# Altium footprint library SG__PCB_LGA.PcbLib: 21 footprints (part 1 of 2)
Each footprint in its own frame and in the unit in brackets; x right, y up, seen from the top. Pads: shape width x height; smd on the part's side, far side on the other; paste and mask are expansions set on the pad; w line width, h text height; cw(c..) or ccw(c..) is an arc to the next point about the centre after c.
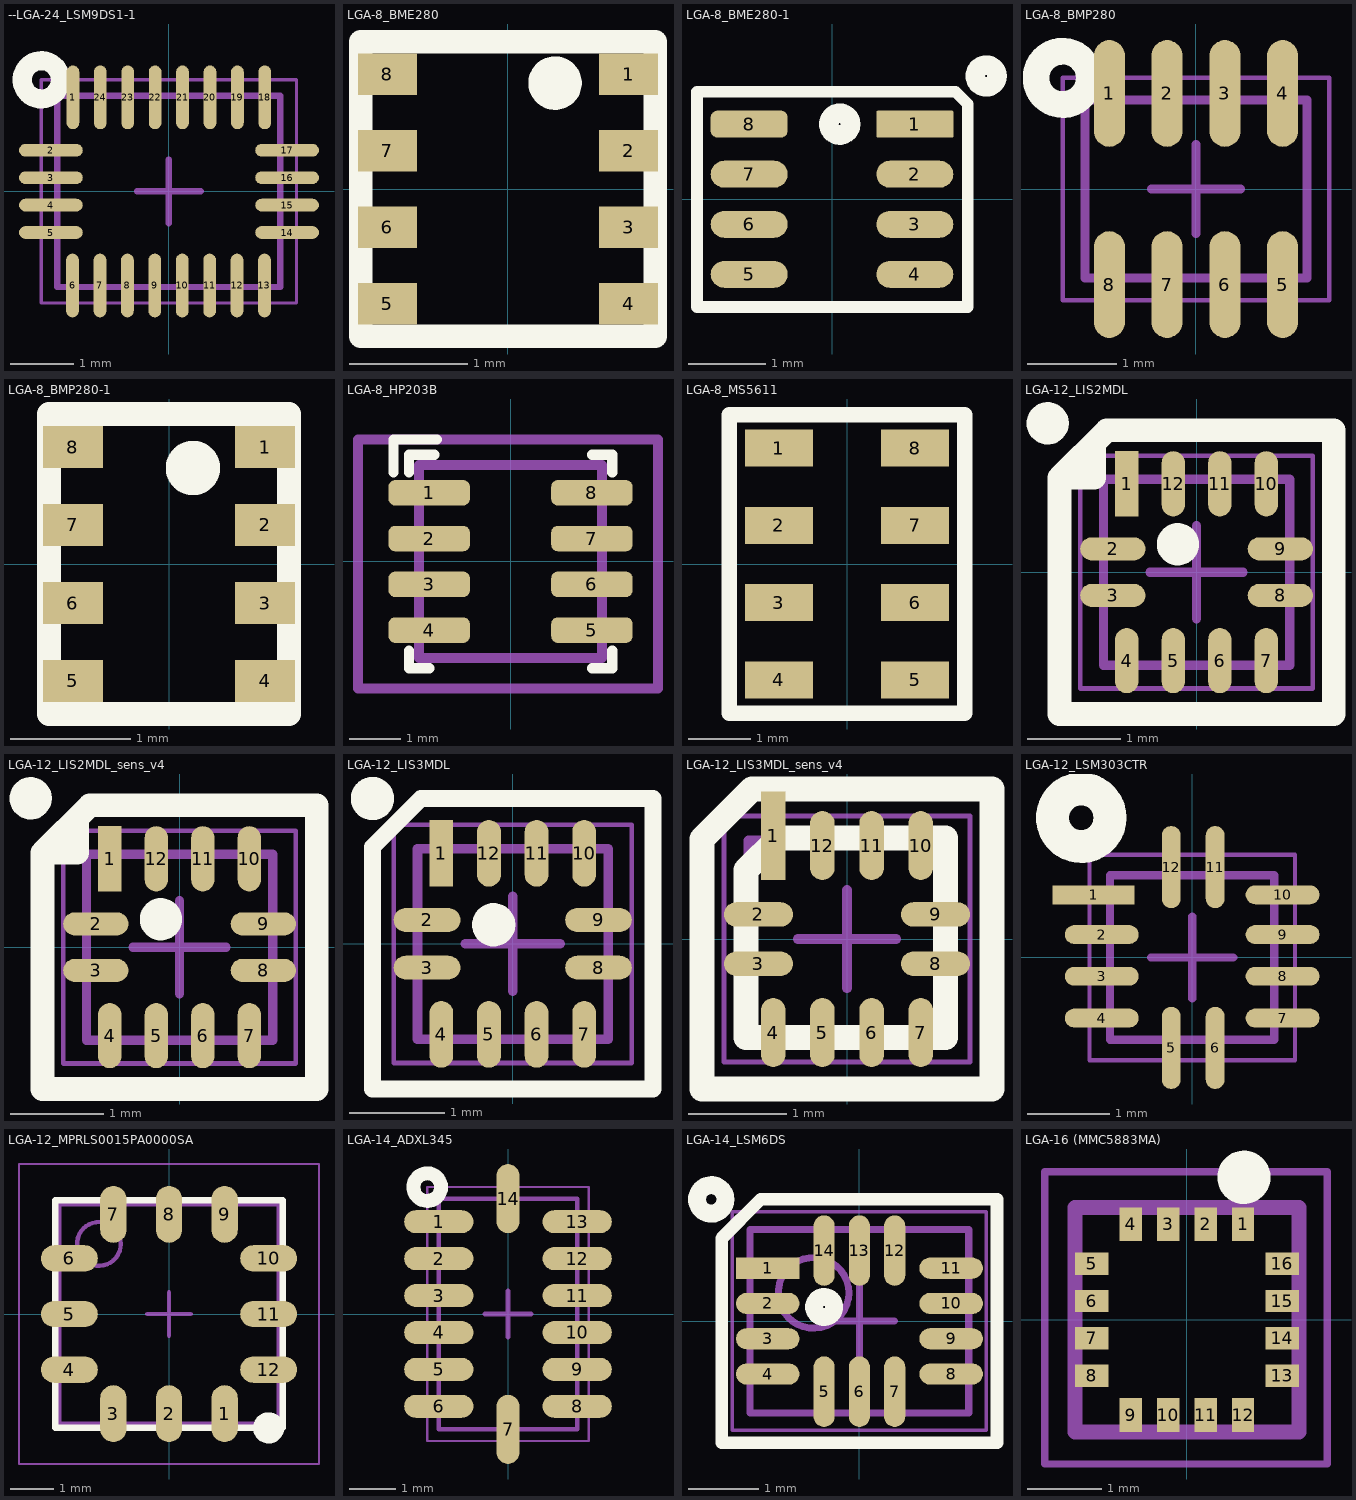
[diagram p0: the footprints below, top view; thin cyan lines are the x and y axes]

## --LGA-24_LSM9DS1-1 [mm] "LGA, 24-Leads, Body 3,50x3,00mmx1,00mm, Pitch 0,43mm"
height 1
pads (24):
  oval 0.2x1 smd: 1(-1.505,1.475) 6(-1.51,-1.475) 7(-1.08,-1.475) 8(-0.65,-1.475) 9(-0.22,-1.475) 10(0.21,-1.475) 11(0.64,-1.475) 12(1.07,-1.475) 13(1.5,-1.475) 18(1.505,1.475) 19(1.075,1.475) 20(0.645,1.475) 21(0.215,1.475) 22(-0.215,1.475) 23(-0.645,1.475) 24(-1.075,1.475)
  oval 1x0.2 smd: 2(-1.85,0.645) 3(-1.85,0.215) 4(-1.85,-0.215) 5(-1.85,-0.645) 14(1.855,-0.645) 15(1.855,-0.215) 16(1.855,0.215) 17(1.855,0.645)
Top Overlay:
  circle w0.3: c-2,1.75 r0.3
Assembly Top:
  lines w0.1: -1.75,-1.5 -1.75,1.5 1.75,1.5 1.75,-1.5 -1.75,-1.5
Courtyard Top:
  lines w0.05: -2,-1.75 -2,1.75 2,1.75 2,-1.75 -2,-1.75
  lines w0.1: -0.5,0 0.5,0 ; 0,-0.5 0,0.5
3D body: height 1, standoff 0.13, extent -1.75,-1.5 1.75,1.5

## LGA-8_BME280 [mm] "BME280"
pads (8):
  rect 0.5x0.35 smd: 1(1.025,0.975) 2(1.025,0.325) 3(1.025,-0.325) 4(1.025,-0.975) 5(-1.025,-0.975) 6(-1.025,-0.325) 7(-1.025,0.325) 8(-1.025,0.975)
Top Overlay:
  circle w0.254: c0.4,0.9 r0.1
  lines w0.2: -1.25,-1.25 1.25,-1.25 1.25,1.25 -1.25,1.25 -1.25,-1.25
3D body "BME280.STEP": height 0.93, standoff 0, extent -1.25,-1.25 1.25,1.25

## LGA-8_BME280-1 [mm] "BME280"
pads (8):
  rrect10% 1x0.35 smd: 1(1.075,0.975)
  oval 1x0.35 smd: 2(1.075,0.325) 3(1.075,-0.325) 4(1.075,-0.975) 5(-1.075,-0.975) 6(-1.075,-0.325) 7(-1.075,0.325)
  rrect50% 1x0.35 smd: 8(-1.075,0.975)
Top Overlay:
  circle w0.254: c0.1,0.975 r0.141
  circle w0.254: c2,1.6 r0.141
  lines w0.152: 1.118,-1.397 1.763,-1.397 1.763,1.237 1.603,1.397 -0.152,1.397 -1.753,1.397 -1.753,0.254 -1.753,-1.397 1.143,-1.397
3D body "BME280.STEP": height 0.93, standoff 0, extent -1.25,-1.25 1.25,1.25

## LGA-8_BMP280 [mm] "LGA, 8-Leads, Body 2,50x2,00mmx0,95mm, Pitch 0,65mm"
height 0.95
pads (8):
  oval 0.35x1.2 smd: 1(-0.975,1.075) 2(-0.325,1.075) 3(0.325,1.075) 4(0.975,1.075) 5(0.975,-1.075) 6(0.325,-1.075) 7(-0.325,-1.075) 8(-0.975,-1.075)
Top Overlay:
  circle w0.3: c-1.5,1.25 r0.3
Assembly Top:
  lines w0.1: -1.25,-1 -1.25,1 1.25,1 1.25,-1 -1.25,-1
Courtyard Top:
  lines w0.05: -1.5,-1.25 -1.5,1.25 1.5,1.25 1.5,-1.25 -1.5,-1.25
  lines w0.1: -0.5,0 0.5,0 ; 0,-0.5 0,0.5
3D body: height 0.95, standoff 0.13, extent -1.25,-1 1.25,1

## LGA-8_BMP280-1 [mm] "BMP280"
pads (8):
  rect 0.5x0.35 smd: 1(0.8,0.975) 2(0.8,0.325) 3(0.8,-0.325) 4(0.8,-0.975) 5(-0.8,-0.975) 6(-0.8,-0.325) 7(-0.8,0.325) 8(-0.8,0.975)
Top Overlay:
  circle w0.254: c0.2,0.8 r0.1
  lines w0.2: -1,-1.25 -1,1.25 1,1.25 1,-1.25 -1,-1.25
3D body "BMP280.STEP": height 1, standoff 0, extent -1,-1.25 1,1.25

## LGA-8_HP203B [mm] "HP203B"
pads (8):
  rrect50% 1.6x0.5 smd: 1(-1.6,1.35) 2(-1.6,0.45) 3(-1.6,-0.45) 4(-1.6,-1.35) 5(1.6,-1.35) 6(1.6,-0.45) 7(1.6,0.45) 8(1.6,1.35)
Top Overlay:
  lines w0.2: -2.3,1.75 -2.3,2.4 -1.45,2.4 ; -2,-1.75 -2,-2.1 -1.6,-2.1 ; -2,1.75 -2,2.1 -1.5,2.1 ; 1.6,-2.1 2,-2.1 2,-1.75 ; 1.6,2.1 2,2.1 2,1.75
Assembly Top:
  lines w0.2: -1.8,-1.9 1.8,-1.9 1.8,1.9 -1.8,1.9 -1.8,-1.9
Courtyard Top:
  lines w0.2: -3,-2.5 -3,2.4 2.9,2.4 2.9,-2.5 -3,-2.5
3D body: height 1.2, standoff 0, extent -1.8,-1.9 1.8,1.9

## LGA-8_MS5611 [mm] "MS5611"
pads (8):
  rect 1.1x0.6 smd: 1(-1.1,1.875) 2(-1.1,0.625) 3(-1.1,-0.625) 4(-1.1,-1.875) 5(1.1,-1.875) 6(1.1,-0.625) 7(1.1,0.625) 8(1.1,1.875)
Top Overlay:
  lines w0.254: -1.905,-2.413 1.905,-2.413 1.905,2.413 -1.905,2.413 -1.905,-2.413
3D body "MS5611.STEP": height 1.02, standoff -0.01, extent -1.5,-2.5 1.5,2.5

## LGA-12_LIS2MDL [mm] "LGA, 12-Leads, Body 2,00x2,00mmx1,00mm, Pitch 0,50mm"
height 1
pads (12):
  rect 0.25x0.7 smd: 1(-0.75,0.95)
  oval 0.7x0.25 smd: 2(-0.9,0.25) 3(-0.9,-0.25) 8(0.9,-0.25) 9(0.9,0.25)
  oval 0.25x0.7 smd: 4(-0.75,-0.95) 5(-0.25,-0.95) 6(0.25,-0.95) 7(0.75,-0.95) 10(0.75,0.95) 11(0.25,0.95) 12(-0.25,0.95)
Top Overlay:
  circle w0.254: c-0.2,0.3 r0.1
  circle w0.254: c-1.6,1.6 r0.1
  lines w0.25: -1.473,1.016 -1.1,1.016 -1.1,1.389
  lines w0.254: -1.473,-1.524 -1.473,1.016 -0.964,1.525 1.473,1.525 1.473,-1.524 -1.473,-1.524
Assembly Top:
  lines w0.1: -1,-1 1,-1 1,1 -1,1 -1,-1
Courtyard Top:
  lines w0.05: -1.25,-1.25 1.25,-1.25 1.25,1.25 -1.25,1.25 -1.25,-1.25
  lines w0.1: -0.5,0 0.5,0 ; 0,-0.5 0,0.5
3D body "LIS3MDL.step": height 1, standoff 0, extent -1,-1.051 1,0.949

## LGA-12_LIS2MDL_sens_v4 [mm] "LGA, 12-Leads, Body 2,00x2,00mmx1,00mm, Pitch 0,50mm"
height 1
pads (12):
  rect 0.25x0.7 smd: 1(-0.75,0.95)
  oval 0.7x0.25 smd: 2(-0.9,0.25) 3(-0.9,-0.25) 8(0.9,-0.25) 9(0.9,0.25)
  oval 0.25x0.7 smd: 4(-0.75,-0.95) 5(-0.25,-0.95) 6(0.25,-0.95) 7(0.75,-0.95) 10(0.75,0.95) 11(0.25,0.95) 12(-0.25,0.95)
Top Overlay:
  circle w0.254: c-1.6,1.6 r0.1
  circle w0.254: c-0.2,0.3 r0.1
  lines w0.25: -1.473,1.016 -1.1,1.016 -1.1,1.389
  lines w0.254: -1.473,-1.524 1.473,-1.524 1.473,1.525 -0.964,1.525 -1.473,1.016 -1.473,-1.524
Assembly Top:
  lines w0.1: -1,-1 -1,1 1,1 1,-1 -1,-1
Courtyard Top:
  lines w0.05: -1.25,-1.25 -1.25,1.25 1.25,1.25 1.25,-1.25 -1.25,-1.25
  lines w0.1: -0.5,0 0.5,0 ; 0,-0.5 0,0.5
3D body "LIS3MDL.step": height 1, standoff 0, extent -1,-1.051 1,0.949

## LGA-12_LIS3MDL [mm] "LGA, 12-Leads, Body 2,00x2,00mmx1,00mm, Pitch 0,50mm"
height 1
pads (12):
  rect 0.25x0.7 smd: 1(-0.75,0.95)
  oval 0.7x0.25 smd: 2(-0.9,0.25) 3(-0.9,-0.25) 8(0.9,-0.25) 9(0.9,0.25)
  oval 0.25x0.7 smd: 4(-0.75,-0.95) 5(-0.25,-0.95) 6(0.25,-0.95) 7(0.75,-0.95) 10(0.75,0.95) 11(0.25,0.95) 12(-0.25,0.95)
Top Overlay:
  circle w0.254: c-0.2,0.2 r0.1
  circle w0.254: c-1.473,1.525 r0.1
  lines w0.18: -1.473,-1.524 -1.473,1.016 -0.964,1.525 1.473,1.525 1.473,-1.524 -1.473,-1.524
Assembly Top:
  lines w0.1: -1,-1 1,-1 1,1 -1,1 -1,-1
Courtyard Top:
  lines w0.05: -1.25,-1.25 1.25,-1.25 1.25,1.25 -1.25,1.25 -1.25,-1.25
  lines w0.1: -0.5,0 0.5,0 ; 0,-0.5 0,0.5
3D body "LIS3MDL.step": height 1, standoff 0, extent -1,-1.051 1,0.949

## LGA-12_LIS3MDL_sens_v4 [mm] "LGA, 12-Leads, Body 2,00x2,00mmx1,00mm, Pitch 0,50mm"
height 1
pads (12):
  rect 0.25x0.9 smd: 1(-0.75,1.05)
  oval 0.7x0.25 smd: 2(-0.9,0.25) 3(-0.9,-0.25) 8(0.9,-0.25) 9(0.9,0.25)
  oval 0.25x0.7 smd: 4(-0.75,-0.95) 5(-0.25,-0.95) 6(0.25,-0.95) 7(0.75,-0.95) 10(0.75,0.95) 11(0.25,0.95) 12(-0.25,0.95)
Top Overlay:
  lines w0.254: -1.473,-1.524 1.473,-1.524 1.473,1.525 -0.964,1.525 -1.473,1.016 -1.473,-1.524 ; -1.025,-1 1,-1 1,1.025 -0.702,1.025 -1.025,0.702 -1.025,-1
Assembly Top:
  lines w0.1: -1,-1 -1,1 1,1 1,-1 -1,-1
Courtyard Top:
  lines w0.05: -1.25,-1.25 -1.25,1.25 1.25,1.25 1.25,-1.25 -1.25,-1.25
  lines w0.1: -0.5,0 0.5,0 ; 0,-0.5 0,0.5
3D body "LIS3MDL.step": height 1, standoff 0, extent -1,-1.051 1,0.949

## LGA-12_LSM303CTR [mm] "LGA, 12-Leads, Body 2,00x2,00mmx1,00mm, Pitch 0,50mm"
height 1
pads (12):
  rect 1x0.23 smd: 1(-1.2,0.762)
  oval 0.9x0.23 smd: 2(-1.1,0.279) 3(-1.1,-0.229) 4(-1.1,-0.737) 7(1.1,-0.737) 8(1.1,-0.229) 9(1.1,0.279) 10(1.1,0.762)
  oval 0.23x1 smd: 5(-0.254,-1.1) 6(0.279,-1.1) 11(0.279,1.1) 12(-0.254,1.1)
Top Overlay:
  circle w0.4: c-1.35,1.7 r0.35
Assembly Top:
  lines w0.1: -1,-1 -1,1 1,1 1,-1 -1,-1
Courtyard Top:
  lines w0.05: -1.25,-1.25 -1.25,1.25 1.25,1.25 1.25,-1.25 -1.25,-1.25
  lines w0.1: -0.5,0 0.5,0 ; 0,-0.5 0,0.5
3D body: height 1, standoff 0.05, extent -1,-1 1,1

## LGA-12_MPRLS0015PA0000SA [mm] "QFN, 12-Leads, Body 5,00x5,00mm, Pitch 1,27mm, IPC Low Density"
height 0.6
pads (12):
  oval 0.6x1.3 smd: 1(1.27,-2.275) 2(0,-2.275) 3(-1.27,-2.275) 7(-1.27,2.275) 8(0,2.275) 9(1.27,2.275)
  oval 1.3x0.6 smd: 4(-2.275,-1.27) 5(-2.275,0) 6(-2.275,1.27) 10(2.275,1.27) 11(2.275,0) 12(2.275,-1.27)
Top Overlay:
  circle w0.356: c2.275,-2.6 r0.178
  lines w0.152: -2.6,-2.6 2.6,-2.6 2.6,2.6 -2.6,2.6 -2.6,-2.6
Assembly Top:
  circle w0.1: c-1.6,1.6 r0.5
  lines w0.1: -2.5,-2.5 -2.5,2.5 2.5,2.5 2.5,-2.5 -2.5,-2.5
Courtyard Top:
  lines w0.05: -3.425,-3.425 -3.425,3.425 3.425,3.425 3.425,-3.425 -3.425,-3.425
  lines w0.1: -0.5,0 0.5,0 ; 0,-0.5 0,0.5
3D body: height 0.6, standoff 0, extent -2.5,-2.5 2.5,2.5
3D body: height 5.8, standoff 0, extent -1.9,-1.897 1.9,1.897

## LGA-14_ADXL345 [mm] "LGA, 14-Leads, Body 3,00x5,00mmx0,79mm, Pitch 0,80mm"
height 0.79
pads (14):
  oval 1.5x0.5 smd: 1(-1.5,2) 2(-1.5,1.2) 3(-1.5,0.4) 4(-1.5,-0.4) 5(-1.5,-1.2) 6(-1.5,-2) 8(1.5,-2) 9(1.5,-1.2) 10(1.5,-0.4) 11(1.5,0.4) 12(1.5,1.2) 13(1.5,2)
  oval 0.5x1.5 smd: 7(0,-2.5) 14(0,2.5)
Top Overlay:
  circle w0.3: c-1.75,2.75 r0.3
Assembly Top:
  lines w0.1: -1.5,-2.5 1.5,-2.5 1.5,2.5 -1.5,2.5 -1.5,-2.5
Courtyard Top:
  lines w0.05: -1.75,-2.75 1.75,-2.75 1.75,2.75 -1.75,2.75 -1.75,-2.75
  lines w0.1: -0.5,0 0.5,0 ; 0,-0.5 0,0.5
3D body: height 0.85, standoff 0.2, extent -1.5,-2.5 1.5,2.5

## LGA-14_LSM6DS [mm] "PQFN, 14-Leads, Body 3,00x2,50mm, Pitch 0,50mm, IPC Medium Density"
height 0.86
pads (14):
  rect 0.9x0.3 smd: 1(-1.3,0.75)
  oval 0.9x0.3 smd: 2(-1.3,0.25) 3(-1.3,-0.25) 4(-1.3,-0.75) 8(1.3,-0.75) 9(1.3,-0.25) 10(1.3,0.25) 11(1.3,0.75)
  oval 0.3x1 smd: 5(-0.5,-1) 6(0,-1) 7(0.5,-1) 12(0.5,1) 13(0,1) 14(-0.5,1)
Top Overlay:
  circle w0.254: c-0.5,0.2 r0.141
  circle w0.254: c-2.1,1.725 r0.202
  lines w0.18: -1.95,-1.725 -1.95,1.175 -1.4,1.725 1.95,1.725 1.95,-1.725 -1.95,-1.725
Assembly Top:
  circle w0.1: c-0.65,0.4 r0.5
  lines w0.1: -1.55,-1.3 1.55,-1.3 1.55,1.3 -1.55,1.3 -1.55,-1.3
Courtyard Top:
  lines w0.05: -1.8,-1.55 1.8,-1.55 1.8,1.55 -1.8,1.55 -1.8,-1.55
  lines w0.1: -0.5,0 0.5,0 ; 0,-0.5 0,0.5
3D body "LSM6DS3TR.STEP": height 0.86, standoff 0, extent -1.575,-1.313 1.525,1.287

## LGA-16 (MMC5883MA) [mm]
height 0.45
pads (16):
  rect 0.3x0.45 smd: 1(0.75,1.275) 2(0.25,1.275) 3(-0.25,1.275) 4(-0.75,1.275) 9(-0.75,-1.275) 10(-0.25,-1.275) 11(0.25,-1.275) 12(0.75,-1.275)
  rect 0.45x0.3 smd: 5(-1.275,0.75) 6(-1.275,0.25) 7(-1.275,-0.25) 8(-1.275,-0.75) 13(1.275,-0.75) 14(1.275,-0.25) 15(1.275,0.25) 16(1.275,0.75)
Top Overlay:
  circle w0.356: c0.762,1.905 r0.178
Assembly Top:
  lines w0.2: -1.5,-1.5 1.5,-1.5 1.5,1.5 -1.5,1.5 -1.5,-1.5
Courtyard Top:
  lines w0.1: -1.905,-1.93 1.88,-1.93 1.88,1.981 -1.905,1.981 -1.905,-1.93
3D body: height 1, standoff 0, extent -1.524,-1.524 1.524,1.524